# Altium schematic symbol library 2019-03-18_21-41-22.SchLib: 2 symbols
Pins are listed as number, name and electrical type; pins without a type are passive.

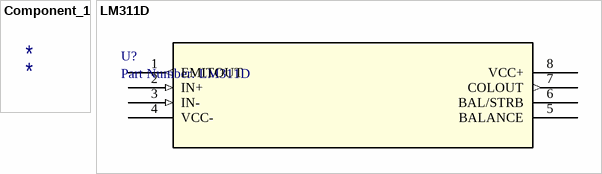
[diagram p0: symbols Component_1 to LM311D]

## Component_1
designator *

## LM311D
designator U?, comment Part Number: LM311D
No Description Available; Vendor: Texas Instruments; Built_By: EMA_UL_Team; Manufacturer_Part_Number: LM311D; Copyright: Copyright (C) 2018 Accelerated Designs. All rights reserved; RefDes: RefDes; Type: DEV; Value: Value
footprint D8
pins: 1 EMITOUT (out), 2 IN+ (in), 3 IN- (in), 4 VCC- (power), 5 BALANCE, 6 BAL/STRB, 7 COLOUT (out), 8 VCC+ (power)